# Altium footprint library LabLib.PcbLib: 145 footprints (part 8 of 10)
Each footprint in its own frame and in the unit in brackets; x right, y up, seen from the top. Pads: shape width x height; smd on the part's side, far side on the other; paste and mask are expansions set on the pad; w line width, h text height; cw(c..) or ccw(c..) is an arc to the next point about the centre after c.
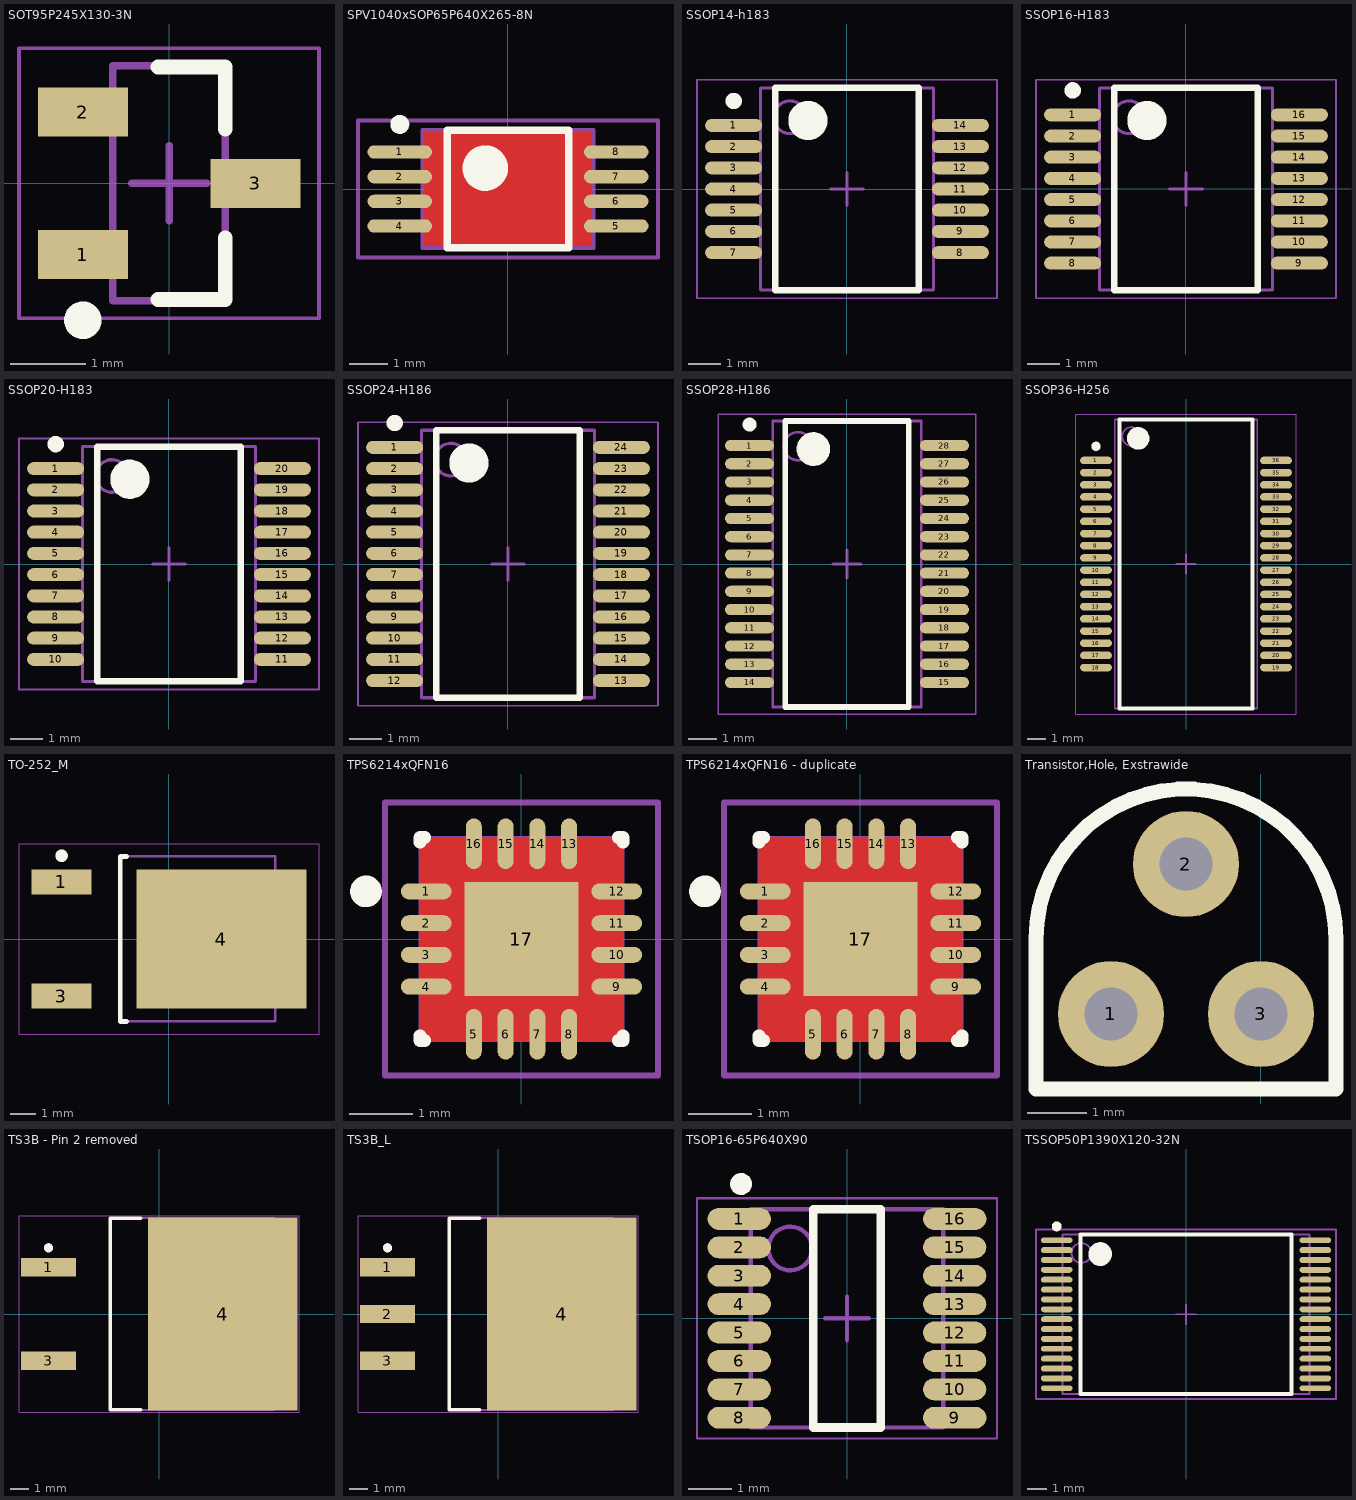
[diagram p7: the footprints below, top view; thin cyan lines are the x and y axes]

## SOT95P245X130-3N [mm] "BC856/7/8 KEC,  SOT23, 3-Leads, Body 2,93x2,45mm, Pitch 0,95mm, IPC Medium Density"
height 1.3
pads (3):
  rect 1.2x0.65 smd: 1(-1.15,-0.95) 2(-1.15,0.95) 3(1.15,0)
Top Overlay:
  circle w0.25: c-1.15,-1.825 r0.125
  lines w0.2: -0.15,-1.55 0.75,-1.55 0.75,-0.725 ; -0.15,1.55 0.75,1.55 0.75,0.725
Mechanical 13:
  lines w0.1: -0.75,-1.565 -0.75,1.565 0.75,1.565 0.75,-1.565 -0.75,-1.565
Mechanical 15:
  lines w0.05: -2,-1.8 -2,1.8 2,1.8 2,-1.8 -2,-1.8
  lines w0.1: -0.5,0 0.5,0 ; 0,-0.5 0,0.5

## SPV1040xSOP65P640X265-8N [mm]
pads (8):
  oval 1.7x0.35 smd: 1(-2.85,0.975) 2(-2.85,0.325) 3(-2.85,-0.325) 4(-2.85,-0.975) 5(2.85,-0.975) 6(2.85,-0.325) 7(2.85,0.325) 8(2.85,0.975)
Top Layer:
  pour cut-out: -2.2,1.5 2.2,1.5 2.2,-1.5 -2.2,-1.5
Top Overlay:
  circle w0.25: c-2.85,1.7 r0.125
  circle w0.6: c-0.6,0.55 r0.3
  lines w0.2: -1.6,-1.55 -1.6,1.55 1.6,1.55 1.6,-1.55 -1.6,-1.55
Mechanical 13:
  circle w0.1: c-1.3,0.6 r0.5
  lines w0.1: -2.25,-1.55 -2.25,1.55 2.25,1.55 2.25,-1.55 -2.25,-1.55
Mechanical 15:
  lines w0.1: -0.5,0 0.5,0 ; 0,-0.5 0,0.5 ; -3.95,-1.8 -3.95,1.8 3.95,1.8 3.95,-1.8 -3.95,-1.8
3D body: height 2.65, standoff 0.1, extent -2.25,-1.55 2.25,1.55

## SSOP14-h183 [mm]
height 1.86
pads (14):
  oval 1.75x0.4 smd: 1(-3.475,1.95) 2(-3.475,1.3) 3(-3.475,0.65) 4(-3.475,0) 5(-3.475,-0.65) 6(-3.475,-1.3) 7(-3.475,-1.95) 8(3.475,-1.95) 9(3.475,-1.3) 10(3.475,-0.65) 11(3.475,0) 12(3.475,0.65) 13(3.475,1.3) 14(3.475,1.95)
Top Overlay:
  circle w0.25: c-3.475,2.7 r0.125
  circle w0.6: c-1.2,2.1 r0.3
  lines w0.2: -2.2,-3.1 -2.2,3.1 2.2,3.1 2.2,-3.1 -2.2,-3.1
Mechanical 13:
  circle w0.1: c-1.75,2.2 r0.5
  lines w0.1: -2.65,-3.1 -2.65,3.1 2.65,3.1 2.65,-3.1 -2.65,-3.1
Mechanical 15:
  lines w0.05: -4.6,-3.35 -4.6,3.35 4.6,3.35 4.6,-3.35 -4.6,-3.35
  lines w0.1: -0.5,0 0.5,0 ; 0,-0.5 0,0.5
3D body: height 1.86, standoff 0.13, extent -2.65,-3.1 2.65,3.1

## SSOP16-H183 [mm]
height 1.86
pads (16):
  oval 1.75x0.4 smd: 1(-3.475,2.275) 2(-3.475,1.625) 3(-3.475,0.975) 4(-3.475,0.325) 5(-3.475,-0.325) 6(-3.475,-0.975) 7(-3.475,-1.625) 8(-3.475,-2.275) 9(3.475,-2.275) 10(3.475,-1.625) 11(3.475,-0.975) 12(3.475,-0.325) 13(3.475,0.325) 14(3.475,0.975) 15(3.475,1.625) 16(3.475,2.275)
Top Overlay:
  circle w0.25: c-3.475,3.025 r0.125
  circle w0.6: c-1.2,2.1 r0.3
  lines w0.2: -2.2,-3.1 -2.2,3.1 2.2,3.1 2.2,-3.1 -2.2,-3.1
Mechanical 13:
  circle w0.1: c-1.75,2.2 r0.5
  lines w0.1: -2.65,-3.1 -2.65,3.1 2.65,3.1 2.65,-3.1 -2.65,-3.1
Mechanical 15:
  lines w0.05: -4.6,-3.35 -4.6,3.35 4.6,3.35 4.6,-3.35 -4.6,-3.35
  lines w0.1: -0.5,0 0.5,0 ; 0,-0.5 0,0.5
3D body: height 1.86, standoff 0.13, extent -2.65,-3.1 2.65,3.1

## SSOP20-H183 [mm]
height 1.86
pads (20):
  oval 1.75x0.4 smd: 1(-3.475,2.925) 2(-3.475,2.275) 3(-3.475,1.625) 4(-3.475,0.975) 5(-3.475,0.325) 6(-3.475,-0.325) 7(-3.475,-0.975) 8(-3.475,-1.625) 9(-3.475,-2.275) 10(-3.475,-2.925) 11(3.475,-2.925) 12(3.475,-2.275) 13(3.475,-1.625) 14(3.475,-0.975) 15(3.475,-0.325) 16(3.475,0.325) 17(3.475,0.975) 18(3.475,1.625) 19(3.475,2.275) 20(3.475,2.925)
Top Overlay:
  circle w0.25: c-3.475,3.675 r0.125
  circle w0.6: c-1.2,2.6 r0.3
  lines w0.2: -2.2,-3.6 -2.2,3.6 2.2,3.6 2.2,-3.6 -2.2,-3.6
Mechanical 13:
  circle w0.1: c-1.75,2.7 r0.5
  lines w0.1: -2.65,-3.6 -2.65,3.6 2.65,3.6 2.65,-3.6 -2.65,-3.6
Mechanical 15:
  lines w0.05: -4.6,-3.85 -4.6,3.85 4.6,3.85 4.6,-3.85 -4.6,-3.85
  lines w0.1: -0.5,0 0.5,0 ; 0,-0.5 0,0.5
3D body: height 1.86, standoff 0.13, extent -2.65,-3.6 2.65,3.6

## SSOP24-H186 [mm]
height 1.86
pads (24):
  oval 1.75x0.4 smd: 1(-3.475,3.575) 2(-3.475,2.925) 3(-3.475,2.275) 4(-3.475,1.625) 5(-3.475,0.975) 6(-3.475,0.325) 7(-3.475,-0.325) 8(-3.475,-0.975) 9(-3.475,-1.625) 10(-3.475,-2.275) 11(-3.475,-2.925) 12(-3.475,-3.575) 13(3.475,-3.575) 14(3.475,-2.925) 15(3.475,-2.275) 16(3.475,-1.625) 17(3.475,-0.975) 18(3.475,-0.325) 19(3.475,0.325) 20(3.475,0.975) 21(3.475,1.625) 22(3.475,2.275) 23(3.475,2.925) 24(3.475,3.575)
Top Overlay:
  circle w0.25: c-3.475,4.325 r0.125
  circle w0.6: c-1.2,3.1 r0.3
  lines w0.2: -2.2,-4.1 -2.2,4.1 2.2,4.1 2.2,-4.1 -2.2,-4.1
Mechanical 13:
  circle w0.1: c-1.75,3.2 r0.5
  lines w0.1: -2.65,-4.1 -2.65,4.1 2.65,4.1 2.65,-4.1 -2.65,-4.1
Mechanical 15:
  lines w0.05: -4.6,-4.35 -4.6,4.35 4.6,4.35 4.6,-4.35 -4.6,-4.35
  lines w0.1: -0.5,0 0.5,0 ; 0,-0.5 0,0.5
3D body: height 1.86, standoff 0.13, extent -2.65,-4.1 2.65,4.1

## SSOP28-H186 [mm]
height 1.86
pads (28):
  oval 1.75x0.4 smd: 1(-3.475,4.225) 2(-3.475,3.575) 3(-3.475,2.925) 4(-3.475,2.275) 5(-3.475,1.625) 6(-3.475,0.975) 7(-3.475,0.325) 8(-3.475,-0.325) 9(-3.475,-0.975) 10(-3.475,-1.625) 11(-3.475,-2.275) 12(-3.475,-2.925) 13(-3.475,-3.575) 14(-3.475,-4.225) 15(3.475,-4.225) 16(3.475,-3.575) 17(3.475,-2.925) 18(3.475,-2.275) 19(3.475,-1.625) 20(3.475,-0.975) 21(3.475,-0.325) 22(3.475,0.325) 23(3.475,0.975) 24(3.475,1.625) 25(3.475,2.275) 26(3.475,2.925) 27(3.475,3.575) 28(3.475,4.225)
Top Overlay:
  circle w0.6: c-1.2,4.1 r0.3
  circle w0.25: c-3.475,4.975 r0.125
  lines w0.2: -2.2,-5.1 2.2,-5.1 2.2,5.1 -2.2,5.1 -2.2,-5.1
Mechanical 13:
  circle w0.1: c-1.75,4.2 r0.5
  lines w0.1: -2.65,-5.1 2.65,-5.1 2.65,5.1 -2.65,5.1 -2.65,-5.1
Mechanical 15:
  lines w0.05: -4.6,-5.35 4.6,-5.35 4.6,5.35 -4.6,5.35 -4.6,-5.35
  lines w0.1: -0.5,0 0.5,0 ; 0,-0.5 0,0.5
3D body: height 1.86, standoff 0.13, extent -2.65,-5.1 2.65,5.1

## SSOP36-H256 [mm]
height 0.01
pads (36):
  oval 1.7x0.4 smd: 1(-4.8,5.525) 2(-4.8,4.875) 3(-4.8,4.225) 4(-4.8,3.575) 5(-4.8,2.925) 6(-4.8,2.275) 7(-4.8,1.625) 8(-4.8,0.975) 9(-4.8,0.325) 10(-4.8,-0.325) 11(-4.8,-0.975) 12(-4.8,-1.625) 13(-4.8,-2.275) 14(-4.8,-2.925) 15(-4.8,-3.575) 16(-4.8,-4.225) 17(-4.8,-4.875) 18(-4.8,-5.525) 19(4.8,-5.525) 20(4.8,-4.875) 21(4.8,-4.225) 22(4.8,-3.575) 23(4.8,-2.925) 24(4.8,-2.275) 25(4.8,-1.625) 26(4.8,-0.975) 27(4.8,-0.325) 28(4.8,0.325) 29(4.8,0.975) 30(4.8,1.625) 31(4.8,2.275) 32(4.8,2.925) 33(4.8,3.575) 34(4.8,4.225) 35(4.8,4.875) 36(4.8,5.525)
Top Overlay:
  circle w0.25: c-4.8,6.275 r0.125
  circle w0.6: c-2.55,6.7 r0.3
  lines w0.2: -3.55,-7.7 -3.55,7.7 3.55,7.7 3.55,-7.7 -3.55,-7.7
Mechanical 13:
  circle w0.1: c-2.9,6.8 r0.5
  lines w0.1: -3.8,-7.7 -3.8,7.7 3.8,7.7 3.8,-7.7 -3.8,-7.7
Mechanical 15:
  lines w0.05: -5.875,-8 -5.875,8 5.875,8 5.875,-8 -5.875,-8
  lines w0.1: -0.5,0 0.5,0 ; 0,-0.5 0,0.5
3D body: height 0.23, standoff 0.01, extent -3.8,-7.7 3.8,7.7

## TO-252_M [mm] "D-PAK, 4-Leads, Body 6.1x6.5mm, Pitch 2.28mm, Lead Span 9.7mm, IPC Low Density"
height 2.4
pads (3):
  rect 2.4x1 smd: 1(-4.3,2.28) 3(-4.3,-2.28)
  rect 6.8x5.55 smd: 4(2.1,0)
Top Overlay:
  circle w0.25: c-4.3,3.33 r0.125
  lines w0.2: -1.7,-3.3 -1.95,-3.3 -1.95,3.3 -1.7,3.3
Mechanical 13:
  lines w0.1: -1.95,-3.3 4.25,-3.3 4.25,3.3 -1.95,3.3 -1.95,-3.3
Mechanical 15:
  lines w0.05: -6,-3.8 6,-3.8 6,3.8 -6,3.8 -6,-3.8
  lines w0.1: -0.5,0 0.5,0 ; 0,-0.5 0,0.5
3D body: height 2.4, standoff 0, extent -1.95,-3.3 4.25,3.3

## TPS6214xQFN16 [mm]
pads (17):
  oval 0.8x0.25 smd: 1(-1.5,0.75) 2(-1.5,0.25) 3(-1.5,-0.25) 4(-1.5,-0.75) 9(1.5,-0.75) 10(1.5,-0.25) 11(1.5,0.25) 12(1.5,0.75)
  oval 0.25x0.8 smd: 5(-0.75,-1.5) 6(-0.25,-1.5) 7(0.25,-1.5) 8(0.75,-1.5) 13(0.75,1.5) 14(0.25,1.5) 15(-0.25,1.5) 16(-0.75,1.5)
  rect 1.8x1.8 smd: 17(0,0)
Top Layer:
  pour cut-out: -1.6,1.6 1.6,1.6 1.6,-1.6 -1.6,-1.6
Top Overlay:
  circle w0.25: c-2.45,0.75 r0.125
  lines w0.2: -1.6,-1.525 -1.6,-1.6 -1.525,-1.6 ; -1.6,1.525 -1.6,1.6 -1.525,1.6 ; 1.525,-1.6 1.6,-1.6 1.6,-1.525 ; 1.525,1.6 1.6,1.6 1.6,1.525
Mechanical 13:
  circle w0.1: c-0.625,0.625 r0.5
  lines w0.1: -1.575,-1.575 1.575,-1.575 1.575,1.575 -1.575,1.575 -1.575,-1.575
Mechanical 15:
  lines w0.1: -0.5,0 0.5,0 ; 0,-0.5 0,0.5 ; -2.15,-2.15 2.15,-2.15 2.15,2.15 -2.15,2.15 -2.15,-2.15
3D body: height 1, standoff 0.08, extent -1.575,-1.575 1.575,1.575

## TPS6214xQFN16 - duplicate [mm] "QFN, 16-Leads, Body 3,2x3,2mm (max), Pitch 0,50mm, IPC Medium Density"
height 1
pads (17):
  oval 0.8x0.25 smd: 1(-1.5,0.75) 2(-1.5,0.25) 3(-1.5,-0.25) 4(-1.5,-0.75) 9(1.5,-0.75) 10(1.5,-0.25) 11(1.5,0.25) 12(1.5,0.75)
  oval 0.25x0.8 smd: 5(-0.75,-1.5) 6(-0.25,-1.5) 7(0.25,-1.5) 8(0.75,-1.5) 13(0.75,1.5) 14(0.25,1.5) 15(-0.25,1.5) 16(-0.75,1.5)
  rect 1.8x1.8 smd: 17(0,0)
Top Layer:
  pour cut-out: -1.6,1.6 1.6,1.6 1.6,-1.6 -1.6,-1.6
Top Overlay:
  circle w0.25: c-2.45,0.75 r0.125
  lines w0.2: -1.6,-1.525 -1.6,-1.6 -1.525,-1.6 ; -1.6,1.525 -1.6,1.6 -1.525,1.6 ; 1.525,-1.6 1.6,-1.6 1.6,-1.525 ; 1.525,1.6 1.6,1.6 1.6,1.525
Mechanical 13:
  circle w0.1: c-0.625,0.625 r0.5
  lines w0.1: -1.575,-1.575 -1.575,1.575 1.575,1.575 1.575,-1.575 -1.575,-1.575
Mechanical 15:
  lines w0.1: -0.5,0 0.5,0 ; 0,-0.5 0,0.5 ; -2.15,-2.15 -2.15,2.15 2.15,2.15 2.15,-2.15 -2.15,-2.15
3D body: height 1, standoff 0.08, extent -1.575,-1.575 1.575,1.575

## Transistor,Hole, Exstrawide [mm]
pads (3):
  round 1.8 / inner rect 0x0 / far side round 1.8 hole 0.9 mask+0.07: 1(-2.54,-6.35) 2(-1.27,-3.81) 3(0,-6.35)
Top Overlay:
  lines w0.254: -3.81,-7.62 1.27,-7.62 1.27,-5.08 ccw(c-1.27,-5.08) -3.81,-5.08 -3.81,-7.62

## TS3B - Pin 2 removed [mm] "D2-PAK, 4-Leads, Body 8.6x10.2mm, Pitch 2.54mm, Lead Span 14.2mm, IPC High Density"
height 4.64
pads (3):
  rect 3x1 smd: 1(-6,2.54) 3(-6,-2.54)
  rect 8.1x10.45 smd: 4(3.45,0)
Top Overlay:
  circle w0.25: c-6,3.59 r0.125
  lines w0.2: -1,-5.2 -2.65,-5.2 -2.65,5.2 -1,5.2
Mechanical 13:
  lines w0.1: -2.65,-5.2 -2.65,5.2 6.24,5.2 6.24,-5.2 -2.65,-5.2
Mechanical 15:
  lines w0.05: -7.6,-5.325 -7.6,5.325 7.6,5.325 7.6,-5.325 -7.6,-5.325
  lines w0.1: -0.5,0 0.5,0 ; 0,-0.5 0,0.5
3D body: height 4.64, standoff 0, extent -2.65,-5.2 6.24,5.2

## TS3B_L [mm] "D2-PAK, 4-Leads, Body 8.6x10.2mm, Pitch 2.54mm, Lead Span 14.2mm, IPC High Density"
height 4.64
pads (4):
  rect 3x1 smd: 1(-6,2.54) 2(-6,0) 3(-6,-2.54)
  rect 8.1x10.45 smd: 4(3.45,0)
Top Overlay:
  circle w0.25: c-6,3.59 r0.125
  lines w0.2: -1,-5.2 -2.65,-5.2 -2.65,5.2 -1,5.2
Mechanical 13:
  lines w0.1: -2.65,-5.2 6.24,-5.2 6.24,5.2 -2.65,5.2 -2.65,-5.2
Mechanical 15:
  lines w0.05: -7.6,-5.325 7.6,-5.325 7.6,5.325 -7.6,5.325 -7.6,-5.325
  lines w0.1: -0.5,0 0.5,0 ; 0,-0.5 0,0.5
3D body: height 4.64, standoff 0, extent -2.65,-5.2 6.24,5.2

## TSOP16-65P640X90 [mm] "TSOP, 16-Leads, Body 5,00x4,40mm, Pitch 0,65mm, IPC Medium Density"
height 0.9
pads (16):
  oval 1.45x0.5 smd: 1(-2.466,2.276) 2(-2.466,1.626) 3(-2.466,0.975) 4(-2.466,0.325) 5(-2.466,-0.325) 6(-2.466,-0.975) 7(-2.466,-1.626) 8(-2.466,-2.276) 9(2.466,-2.276) 10(2.464,-1.626) 11(2.464,-0.975) 12(2.464,-0.325) 13(2.464,0.325) 14(2.464,0.975) 15(2.464,1.626) 16(2.466,2.276)
Top Overlay:
  circle w0.25: c-2.425,3.075 r0.125
  lines w0.2: -0.775,-2.5 0.775,-2.5 0.775,2.5 -0.775,2.5 -0.775,-2.5
Mechanical 13:
  circle w0.1: c-1.3,1.6 r0.5
  lines w0.1: -2.2,-2.5 2.2,-2.5 2.2,2.5 -2.2,2.5 -2.2,-2.5
Mechanical 15:
  lines w0.05: -3.434,-2.75 3.434,-2.75 3.434,2.75 -3.434,2.75 -3.434,-2.75
  lines w0.1: -0.5,0 0.5,0 ; 0,-0.5 0,0.5
3D body: height 0.9, standoff 0.1, extent -2.2,-2.5 2.2,2.5

## TSSOP50P1390X120-32N [mm]
pads (32):
  oval 1.6x0.3 smd: 1(-6.55,3.75) 2(-6.55,3.25) 3(-6.55,2.75) 4(-6.55,2.25) 5(-6.55,1.75) 6(-6.55,1.25) 7(-6.55,0.75) 8(-6.55,0.25) 9(-6.55,-0.25) 10(-6.55,-0.75) 11(-6.55,-1.25) 12(-6.55,-1.75) 13(-6.55,-2.25) 14(-6.55,-2.75) 15(-6.55,-3.25) 16(-6.55,-3.75) 17(6.55,-3.75) 18(6.55,-3.25) 19(6.55,-2.75) 20(6.55,-2.25) 21(6.55,-1.75) 22(6.55,-1.25) 23(6.55,-0.75) 24(6.55,-0.25) 25(6.55,0.25) 26(6.55,0.75) 27(6.55,1.25) 28(6.55,1.75) 29(6.55,2.25) 30(6.55,2.75) 31(6.55,3.25) 32(6.55,3.75)
Top Overlay:
  circle w0.6: c-4.35,3.05 r0.3
  circle w0.25: c-6.55,4.45 r0.125
  lines w0.2: -5.35,-4.05 5.35,-4.05 5.35,4.05 -5.35,4.05 -5.35,-4.05
Mechanical 13:
  circle w0.1: c-5.3,3.1 r0.5
  lines w0.1: -6.25,-4.05 6.25,-4.05 6.25,4.05 -6.25,4.05 -6.25,-4.05
Mechanical 15:
  lines w0.1: -0.5,0 0.5,0 ; 0,-0.5 0,0.5 ; -7.6,-4.3 7.6,-4.3 7.6,4.3 -7.6,4.3 -7.6,-4.3
3D body: height 1.2, standoff 0.05, extent -6.25,-4.05 6.25,4.05